# Altium schematic symbol library SCH - IR RECEIVER - VISHAY TSOP75338TR.Schlib: 1 symbol
Pins are listed as number, name and electrical type; pins without a type are passive.

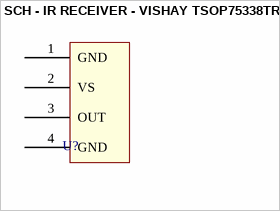
[diagram p0: symbol SCH - IR RECEIVER - VISHAY TSOP75338TR]

## SCH - IR RECEIVER - VISHAY TSOP75338TR
designator U?
footprint TSOP753 (IR Receiver Module TSOP75338TR)
pins: 1 GND, 2 VS, 3 OUT, 4 GND